# Altium schematic symbol library PWM_X2_SG3525.SchLib: 1 symbol
Pins are listed as number, name and electrical type; pins without a type are passive.

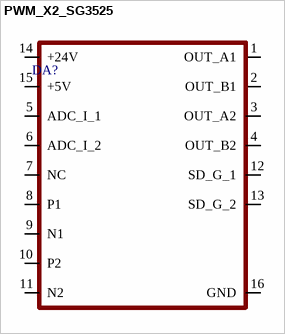
[diagram p0: symbol PWM_X2_SG3525]

## PWM_X2_SG3525
designator DA?
footprint PWM_X2_SG3525
pins: 1 OUT_A1, 2 OUT_B1, 3 OUT_A2, 4 OUT_B2, 5 ADC_I_1, 6 ADC_I_2, 7 NC, 8 P1, 9 N1, 10 P2, 11 N2, 12 SD_G_1, 13 SD_G_2, 14 +24V, 15 +5V, 16 GND